# EAGLE library part ACS711 (library user_ic)
アレグロ 電流センサIC ホールセンサ式の絶縁型電流センサ 12.5A、25Aの測定レンジの種類がある digikey：620-1372-1-ND 単価：295
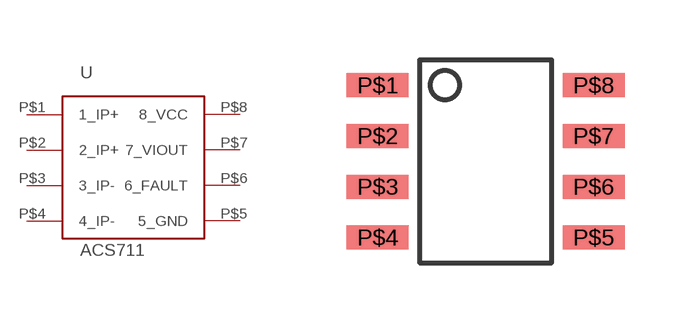
[diagram p23: symbol with the pads of SOIC8; footprint SOIC8]

Designator prefix U

## ACS711  [SOIC8]
P$1  1_IP+
P$2  2_IP+
P$3  3_IP-
P$4  4_IP-
P$5  5_GND
P$6  6_FAULT
P$7  7_VIOUT
P$8  8_VCC

## Footprint SOIC8 (pad centres in mm)
時々SOPと表記されることがある。 幅が異なるため確認をすること
smd 1.55 x 0.6: P$1 -2.7,1.905; P$2 -2.7,0.635; P$3 -2.7,-0.635; P$4 -2.7,-1.905; P$5 2.7,-1.905; P$6 2.7,-0.635; P$7 2.7,0.635; P$8 2.7,1.905